# Altium schematic symbol library 691214110002S.SchLib: 1 symbol
Pins are listed as number, name and electrical type; pins without a type are passive.

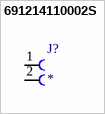
[diagram p0: symbol 691214110002S]

## 691214110002S
designator J?
<b>   WR-TBL2   <BR>       SERIE 2141S - 3.50 MM - HORIZONTAL CABLE ENTRY WITH RISING CAGE CLAMP - 2 pins </B>      <BR>     <BR>     <BR>     <BR>          <br><a href="http://katalog.we-online.de/media/images/eican/Con_TBL_Screw_RisingClamp_3.50_6912141100xxS_pf2.jpg"> <img src="http://katalog.we-online.de/media/images/eican/Con_TBL_Screw_RisingClamp_3.50_6912141100xxS_pf2.jpg" width="320"></a><p> Details see: <a href="http://katalog.we-online.de/en/em/TBL_3_50_2141S_HORIZONTAL_ENTRY_MODULAR_W_RISING_CAGE_69121411000xS">http://katalog.we-online.de/en/em/TBL_3_50_2141S_HORIZONTAL_ENTRY_MODULAR_W_RISING_CAGE_69121411000xS</a><p> Created on  2015-07-09 <br> 2015 (C) Wurth Elektronik; MP: 691214110002S; MF: {'manufacturer': u'W\xfcrth Elektronik'}; Availability: Unavailable; Price: None; Package: None; Value: *
footprint 691214110002S
pins: 1, 2